# Altium footprint library LED_SMD.PcbLib: 8 footprints
Each footprint in its own frame and in the unit in brackets; x right, y up, seen from the top. Pads: shape width x height; smd on the part's side, far side on the other; paste and mask are expansions set on the pad; w line width, h text height; cw(c..) or ccw(c..) is an arc to the next point about the centre after c.
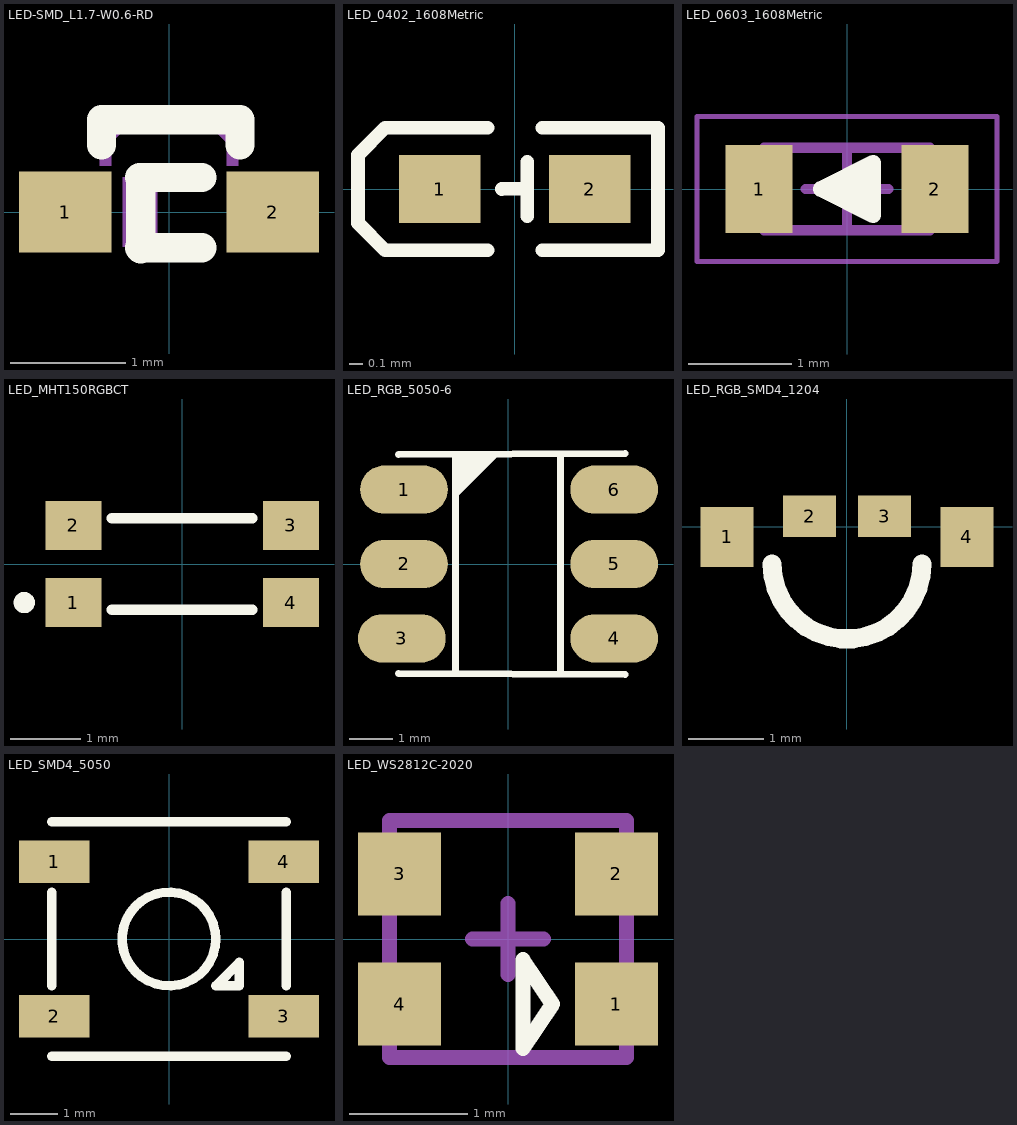
[diagram p0: the footprints below, top view; thin cyan lines are the x and y axes]

## LED-SMD_L1.7-W0.6-RD [mm]
pads (2):
  rect 0.8x0.7 smd: 1(-0.9,0) 2(0.9,0)
Top Overlay:
  lines w0.254: -0.585,0.581 -0.585,0.8 0.615,0.8 0.615,0.581 ; -0.254,-0.31 0.284,-0.31 ; -0.254,0.3 0.284,0.3 ; -0.245,-0.32 -0.245,0.279
Mechanical 15:
  region: -0.4,0.3 -0.1,0.3 -0.1,-0.3 -0.4,-0.3
  region: -0.6,0.4 -0.6,0.575 -0.6,0.675 -0.5,0.775 -0.4,0.775 0.5,0.775 0.6,0.675 0.6,0.4 0.5,0.4 0.5,0.6 0.4,0.7 -0.4,0.7 -0.5,0.6 -0.5,0.4
  region: -1.158,-0.035 -1.158,0.035 -0.638,0.035 -0.638,-0.035
  region: 0.935,-0.258 0.865,-0.258 0.865,0.262 0.935,0.262
  region: 0.642,-0.035 0.642,0.035 1.162,0.035 1.162,-0.035
3D body "led_side.stp": height 0.6, standoff 0, extent -0.825,-0.35 0.825,0.81

## LED_0402_1608Metric [mm]
pads (2):
  rect 0.6x0.5 smd: 1(-0.55,0) 2(0.55,0)
Top Overlay:
  lines w0.1: -0.2,-0.45 -0.95,-0.45 -1.15,-0.25 -1.15,0.25 -0.95,0.45 ; -0.2,0.45 -0.95,0.45 ; -0.096,0 0.09,0.001 ; 0.09,-0.2 0.09,0.2 ; 0.2,-0.45 1.05,-0.45 1.05,0.45 0.2,0.45 ; -0.95,0.45 -0.95,0.45
3D body "User Library-led_0402.STEP": height 0.45, standoff 0, extent -0.505,-0.25 0.505,0.25

## LED_0603_1608Metric [mm] "Chip Resistor, 2-Leads, Body 1.60x0.80mm, IPC Medium Density"
height 0.45
pads (2):
  rect 0.65x0.85 smd: 1(-0.85,0) 2(0.85,0)
Top Overlay:
  region: 0.254,0.254 0.254,-0.254 -0.254,0
  lines w0.152: -0.254,0 0.254,0.254 0.254,-0.254 -0.254,0
Mechanical 13:
  lines w0.1: -0.8,-0.4 -0.8,0.4 0.8,0.4 0.8,-0.4 -0.8,-0.4
Mechanical 15:
  lines w0.05: -1.45,-0.7 -1.45,0.7 1.45,0.7 1.45,-0.7 -1.45,-0.7
  lines w0.1: -0.4,0 0.4,0 ; 0,-0.4 0,0.4
3D body "User Library-LED SMD0603.STEP": height 0.68, standoff 0, extent -0.837,-0.363 0.813,0.363

## LED_MHT150RGBCT [mm]
pads (4):
  rect 0.8x0.7 smd: 1(-1.55,-0.55) 2(-1.55,0.55) 3(1.55,0.55) 4(1.55,-0.55)
Top Overlay:
  circle w0.152: c-2.25,-0.55 r0.075
  lines w0.152: -1,-0.65 1,-0.65 ; -1,0.65 1,0.65

## LED_RGB_5050-6 [mm]
pads (6):
  oval 2x1.1 smd: 1(-2.375,1.7) 2(-2.375,0) 3(-2.425,-1.7) 4(2.425,-1.7) 5(2.425,0) 6(2.425,1.7)
Top Overlay:
  region: -1.2,2.506 -1.194,2.5 -0.3,2.5 -1.2,1.6
  lines w0.152: -2.5,-2.5 2.675,-2.525 ; -2.5,2.5 2.675,2.525 ; -1.2,-2.506 -1.2,2.506 ; -1.2,1.6 -0.3,2.5 ; 1.2,-2.506 1.2,2.506
3D body "LED_RGB_5050-6.step": height 1.6, standoff 0, extent -2.625,-2.5 2.775,2.5

## LED_RGB_SMD4_1204 [mm]
height 1
pads (4):
  rect 0.7x0.8 smd: 1(-1.6,-0.138) 4(1.6,-0.138)
  rect 0.7x0.55 smd: 2(-0.5,0.138) 3(0.5,0.138)
Top Overlay:
  lines w0.254: -1,-0.5 ccw(c0,-0.5) 1,-0.5

## LED_SMD4_5050 [mm]
pads (4):
  rect 1.5x0.9 smd: 1(-2.45,1.65) 2(-2.45,-1.65) 3(2.45,-1.65) 4(2.45,1.65)
Top Overlay:
  circle w0.2: c0,0 r1
  lines w0.2: -2.5,-2.5 2.5,-2.5 ; -2.5,-1 -2.5,1 ; -2.5,2.5 2.5,2.5 ; 2.5,-1 2.5,1 ; 1.5,-0.5 1.5,-0.5 ; 1.5,-0.5 1,-1 1.5,-1 1.5,-0.5
3D body "LED_RGB_5050-6.step": height 1.6, standoff 0, extent -2.625,-2.5 2.775,2.5

## LED_WS2812C-2020 [mm]
pads (4):
  rect 0.7x0.7 smd: 1(0.915,-0.55) 2(0.915,0.55) 3(-0.915,0.55) 4(-0.915,-0.55)
Top Overlay:
  lines w0.127: 0.125,-0.925 0.125,-0.175 0.375,-0.55 0.125,-0.925
Mechanical 15:
  lines w0.127: -0.3,0 0.3,0 ; 0,-0.3 0,0.3 ; -1,-1 1,-1 1,1 -1,1 -1,-1
3D body: height 0.94, standoff 0.1, extent -0.794,-0.798 0.8,0.798
3D body: height 0.28, standoff 0, extent -1,-1 1,1